# Altium footprint library pcb.PcbLib: 34 footprints (part 3 of 3)
Each footprint in its own frame and in the unit in brackets; x right, y up, seen from the top. Pads: shape width x height; smd on the part's side, far side on the other; paste and mask are expansions set on the pad; w line width, h text height; cw(c..) or ccw(c..) is an arc to the next point about the centre after c.
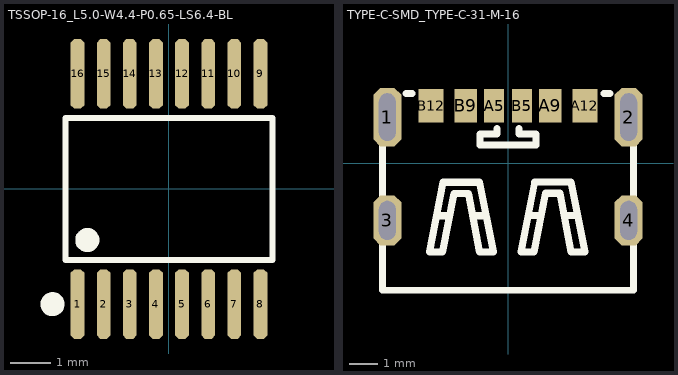
[diagram p2: the footprints below, top view; thin cyan lines are the x and y axes]

## TSSOP-16_L5.0-W4.4-P0.65-LS6.4-BL [mil]
pads (16):
  oct 13.5x68.2 smd mask+2: 1(-89.6,-112.8) 2(-64,-112.8) 3(-38.4,-112.8) 4(-12.8,-112.8) 5(12.8,-112.8) 6(38.4,-112.8) 7(64,-112.8) 8(89.6,-112.8) 9(89.6,112.8) 10(64,112.8) 11(38.4,112.8) 12(12.8,112.8) 13(-12.8,112.8) 14(-38.4,112.8) 15(-64,112.8) 16(-89.6,112.8)
Top Overlay:
  lines w6: -101.4,-69.7 101.4,-69.7 101.4,69.7 -101.4,69.7 -101.4,-69.7
  lines w11.8: -119.98,-113.27 -119.83,-114.21 ; -119.98,-112.33 -119.83,-111.39 ; -119.53,-115.11 -119.09,-115.95 ; -119.53,-110.49 -119.09,-109.65 ; -118.52,-116.71 -117.83,-117.37 ; -118.52,-108.89 -117.83,-108.23 ; -117.05,-117.91 -116.19,-118.32 ; -117.05,-107.69 -116.19,-107.28 ; -115.28,-118.58 -114.34,-118.7 ; -115.28,-107.02 -114.34,-106.9 ; -113.39,-118.66 -112.46,-118.47 ; -113.39,-106.94 -112.46,-107.13 ; -111.57,-118.13 -110.75,-117.66 ; -111.57,-107.47 -110.75,-107.94 ; -110.01,-117.06 -109.38,-116.34 ; -110.01,-108.54 -109.38,-109.26 ; -108.88,-115.54 -108.5,-114.67 ; -108.88,-110.06 -108.5,-110.93 ; -108.28,-113.75 -108.2,-112.8 -108.28,-111.85 ; -85.88,-50.47 -85.73,-51.41 ; -85.88,-49.53 -85.73,-48.59 ; -85.43,-52.31 -84.99,-53.15 ; -85.43,-47.69 -84.99,-46.85 ; -84.42,-53.91 -83.73,-54.57 ; -84.42,-46.09 -83.73,-45.43 ; -82.95,-55.11 -82.09,-55.52 ; -82.95,-44.89 -82.09,-44.48 ; -81.18,-55.78 -80.24,-55.9 ; -81.18,-44.22 -80.24,-44.1 ; -79.29,-55.86 -78.36,-55.67 ; -79.29,-44.14 -78.36,-44.33 ; -77.47,-55.33 -76.65,-54.86 ; -77.47,-44.67 -76.65,-45.14 ; -75.91,-54.26 -75.28,-53.54 ; -75.91,-45.74 -75.28,-46.46 ; -74.78,-52.74 -74.4,-51.87 ; -74.78,-47.26 -74.4,-48.13 ; -74.18,-50.95 -74.1,-50 -74.18,-49.05

## TYPE-C-SMD_TYPE-C-31-M-16 [mil]
pads (10):
  oct 39.4x82.7 hole 23.6 slot 66.9 at 90 deg mask+2: 1(-170.1,65) 2(170.1,65)
  oct 39.4x70.9 hole 23.6 slot 55.1 at 90 deg mask+2: 3(-170.1,-80.7) 4(170.1,-80.7)
  rect 27.6x47.2 smd mask+2: A5(-19.7,80.7) B5(19.7,80.7)
  rect 31.5x47.2 smd mask+2: A9(59.8,80.7) B9(-59.8,80.7)
  rect 35.4x47.2 smd mask+2: A12(108.3,80.7) B12(-108.3,80.7)
Top Overlay:
  lines w9.8: -177.2,-179.1 177.2,-179.1 ; -177.2,-177.2 -177.2,98 ; -143.7,98 -135,98 ; -39.8,25.6 39.8,25.6 ; -39.4,25.6 -39.4,41.3 -15.7,41.3 -15.7,49.2 ; 15.7,49.2 15.7,41.3 39.4,41.3 39.4,25.6 ; 135,98 143.7,98 ; 177.2,-177.2 177.2,98
  lines w10: -99.1,-74.1 -83.4,-74.1 ; -48,-74.1 -32.2,-74.1 ; 29.9,-73.9 45.6,-73.9 ; 81,-73.9 96.8,-73.9 ; -110.9,-125.3 -91.3,-26.8 -40.1,-26.8 -20.4,-125.3 -39.9,-125.3 -55.6,-42.6 -76.4,-42.6 -92.2,-125.3 -110.9,-125.3 ; 18.1,-125.1 37.7,-26.6 88.9,-26.6 108.6,-125.1 89.1,-125.1 73.4,-42.4 52.6,-42.4 36.8,-125.1 18.1,-125.1
Top Paste:
  drawing of 10 lines, arcs and shapes, not listed